# Altium footprint library Capacitor Non-Polar Disc.PcbLib: 220 footprints (part 10 of 14)
Each footprint in its own frame and in the unit in brackets; x right, y up, seen from the top. Pads: shape width x height; smd on the part's side, far side on the other; paste and mask are expansions set on the pad; w line width, h text height; cw(c..) or ccw(c..) is an arc to the next point about the centre after c.
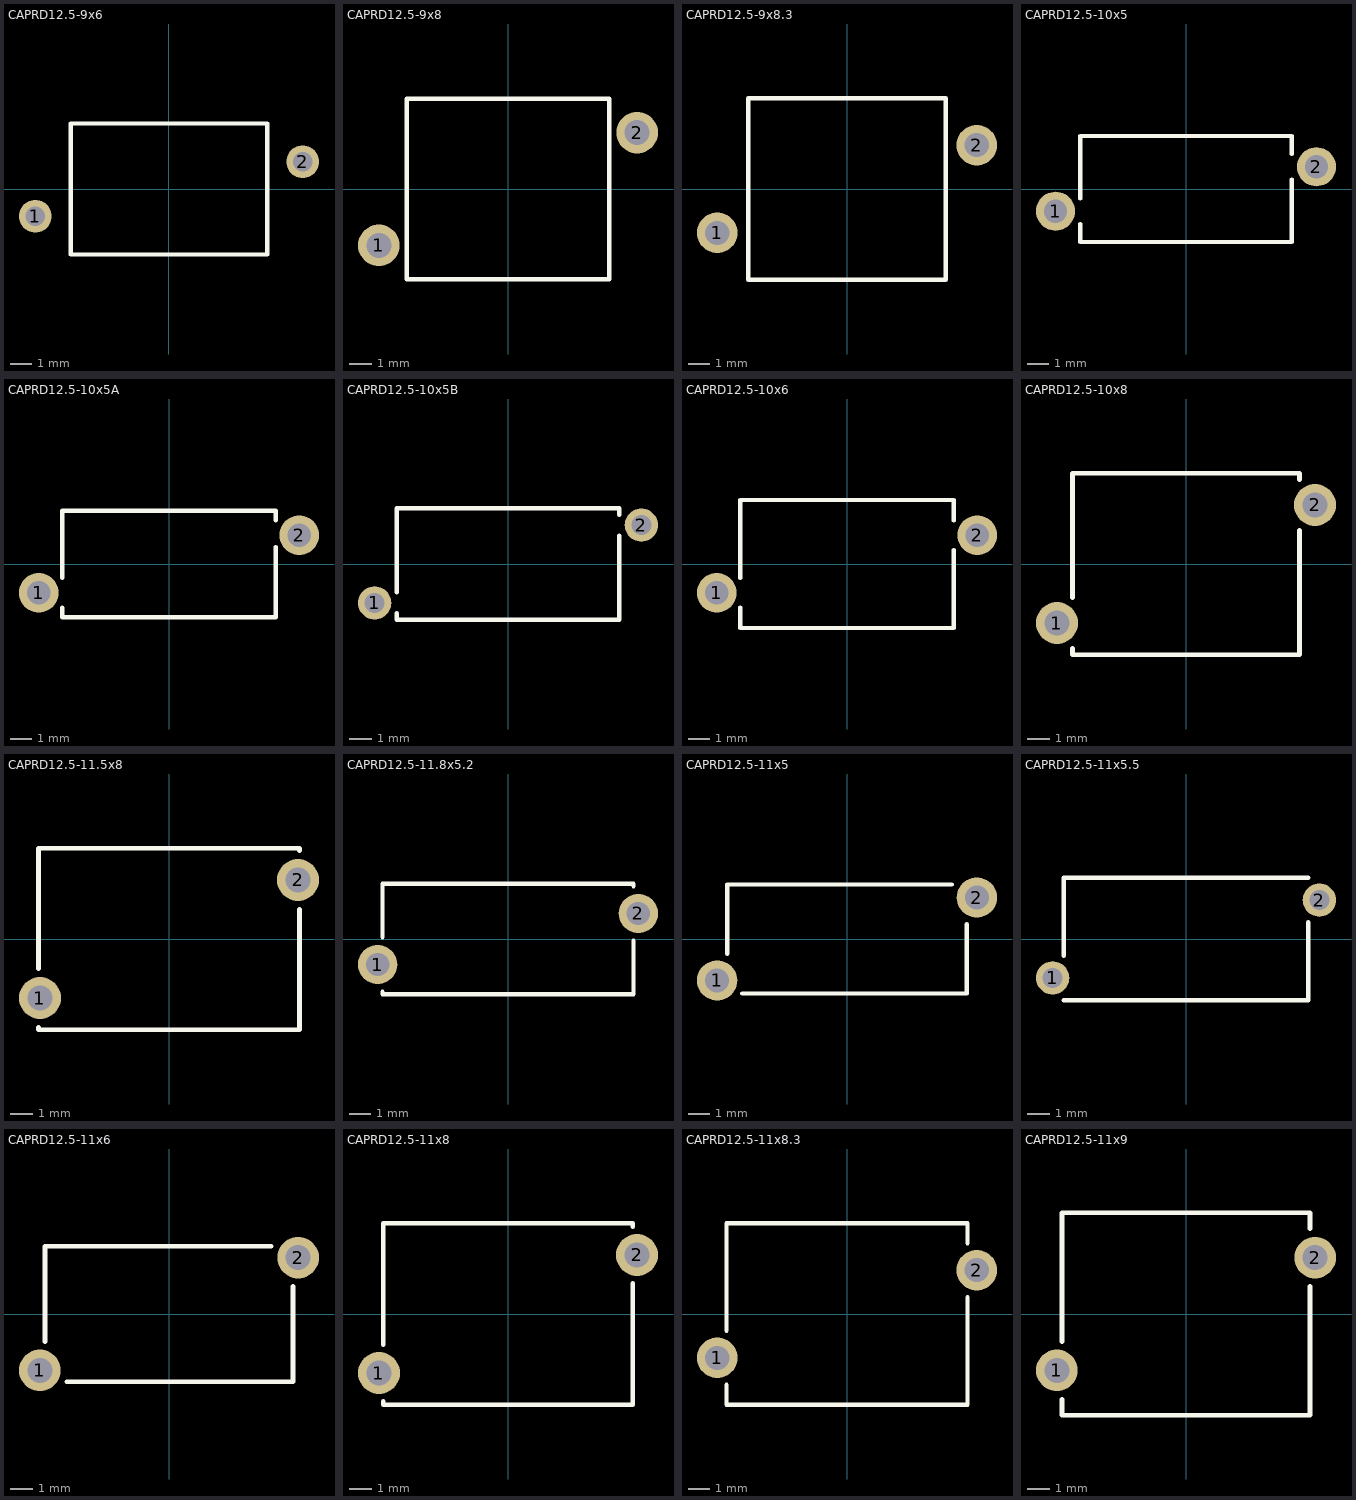
[diagram p9: the footprints below, top view; thin cyan lines are the x and y axes]

## CAPRD12.5-9x6 [mm] "Capacitor, Ceramic, Thru-Hole, Disc; Body 9 x 6 mm (LxW max) Pin Spacing 12.5 mm (typ)"
height 12
pads (2):
  round 1.5 hole 0.9: 1(-6.124,-1.25) 2(6.124,1.25)
Top Overlay:
  lines w0.2: -4.5,-3 -4.5,3 4.5,3 4.5,-3 -4.5,-3

## CAPRD12.5-9x8 [mm] "Capacitor, Ceramic, Thru-Hole, Disc; Body 9 x 8 mm (LxW max) Pin Spacing 12.5 mm (typ)"
height 12
pads (2):
  round 1.85 hole 1.1: 1(-5.728,-2.5) 2(5.728,2.5)
Top Overlay:
  lines w0.2: -4.5,-4 -4.5,4 4.5,4 4.5,-4 -4.5,-4

## CAPRD12.5-9x8.3 [mm] "Capacitor, Ceramic, Thru-Hole, Disc; Body 9 x 8.3 mm (LxW max) Pin Spacing 12.5 mm (typ)"
height 12
pads (2):
  round 1.85 hole 1.1: 1(-5.921,-2) 2(5.921,2)
Top Overlay:
  lines w0.2: -4.5,-4.15 4.5,-4.15 4.5,4.15 -4.5,4.15 -4.5,-4.15

## CAPRD12.5-10x5 [mm] "Capacitor, Ceramic, Thru-Hole, Disc; Body 10 x 5 mm (LxW max) Pin Spacing 12.5 mm (typ)"
height 13
pads (2):
  round 1.85 hole 1.1: 1(-6.161,-1.05) 2(6.161,1.05)
Top Overlay:
  lines w0.2: -5,-1.65 -5,-2.5 5,-2.5 5,0.45 ; -5,-0.45 -5,2.5 5,2.5 5,1.65

## CAPRD12.5-10x5A [mm] "Capacitor, Ceramic, Thru-Hole, Disc; Body 10 x 5 mm (LxW max) Pin Spacing 12.5 mm (typ)"
height 13
pads (2):
  round 1.85 hole 1.1: 1(-6.102,-1.35) 2(6.102,1.35)
Top Overlay:
  lines w0.2: -5,-2.05 -5,-2.5 5,-2.5 5,0.8 ; -5,-0.65 -5,2.5 5,2.5 5,2.05

## CAPRD12.5-10x5B [mm] "Capacitor, Ceramic, Thru-Hole, Disc; Body 10 x 5 mm (LxW max) Pin Spacing 12.5 mm (typ)"
height 13
pads (2):
  round 1.5 hole 0.9: 1(-6,-1.75) 2(6,1.75)
Top Overlay:
  lines w0.2: -5,-2.22 -5,-2.5 5,-2.5 5,1.28 ; -5,-1.28 -5,2.5 5,2.5 5,2.22

## CAPRD12.5-10x6 [mm] "Capacitor, Ceramic, Thru-Hole, Disc; Body 10 x 6 mm (LxW max) Pin Spacing 12.5 mm (typ)"
height 13
pads (2):
  round 1.85 hole 1.1: 1(-6.102,-1.35) 2(6.102,1.35)
Top Overlay:
  lines w0.2: -5,-2.04 -5,-3 5,-3 5,0.66 ; -5,-0.66 -5,3 5,3 5,2.04

## CAPRD12.5-10x8 [mm] "Capacitor, Ceramic, Thru-Hole, Disc; Body 10 x 8 mm (LxW max) Pin Spacing 12.5 mm (typ)"
height 13
pads (2):
  round 1.85 hole 1.1: 1(-5.684,-2.6) 2(5.684,2.6)
Top Overlay:
  lines w0.2: -5,-3.706 -5,-4 5,-4 5,1.494 ; -5,-1.494 -5,4 5,4 5,3.706

## CAPRD12.5-11.5x8 [mm] "Capacitor, Ceramic, Thru-Hole, Disc; Body 11.5 x 8 mm (LxW max) Pin Spacing 12.5 mm (typ)"
height 14.5
pads (2):
  round 1.85 hole 1.1: 1(-5.684,-2.6) 2(5.684,2.6)
Top Overlay:
  lines w0.2: -5.75,-3.899 -5.75,-4 5.75,-4 5.75,1.301 ; -5.75,-1.301 -5.75,4 5.75,4 5.75,3.899

## CAPRD12.5-11.8x5.2 [mm] "Capacitor, Ceramic, Thru-Hole, Disc; Body 11.8 x 5.2 mm (LxW max) Pin Spacing 12.5 mm (typ)"
height 14.8
pads (2):
  round 1.85 hole 1.1: 1(-6.134,-1.2) 2(6.134,1.2)
Top Overlay:
  lines w0.2: -5.9,-2.481 -5.9,-2.6 5.9,-2.6 5.9,-0.081 ; -5.9,0.081 -5.9,2.6 5.9,2.6 5.9,2.481

## CAPRD12.5-11x5 [mm] "Capacitor, Ceramic, Thru-Hole, Disc; Body 11 x 5 mm (LxW max) Pin Spacing 12.5 mm (typ)"
height 14
pads (2):
  round 1.85 hole 1.1: 1(-5.954,-1.9) 2(5.954,1.9)
Top Overlay:
  lines w0.2: -5.5,-0.68 -5.5,2.5 4.799,2.5 ; -4.799,-2.5 5.5,-2.5 5.5,0.68

## CAPRD12.5-11x5.5 [mm] "Capacitor, Ceramic, Thru-Hole, Disc; Body 11 x 5.5 mm (LxW max) Pin Spacing 12.5 mm (typ)"
height 14
pads (2):
  round 1.5 hole 0.9: 1(-6,-1.75) 2(6,1.75)
Top Overlay:
  lines w0.2: -5.5,-2.75 5.5,-2.75 5.5,0.75 ; -5.5,-0.75 -5.5,2.75 5.5,2.75

## CAPRD12.5-11x6 [mm] "Capacitor, Ceramic, Thru-Hole, Disc; Body 11 x 6 mm (LxW max) Pin Spacing 12.5 mm (typ)"
height 16
pads (2):
  round 1.85 hole 1.1: 1(-5.728,-2.5) 2(5.728,2.5)
Top Overlay:
  lines w0.2: -5.5,-1.22 -5.5,3 4.528,3 ; -4.528,-3 5.5,-3 5.5,1.22

## CAPRD12.5-11x8 [mm] "Capacitor, Ceramic, Thru-Hole, Disc; Body 11 x 8 mm (LxW max) Pin Spacing 12.5 mm (typ)"
height 14
pads (2):
  round 1.85 hole 1.1: 1(-5.684,-2.6) 2(5.684,2.6)
Top Overlay:
  lines w0.2: -5.5,-3.85 -5.5,-4 5.5,-4 5.5,1.35 ; -5.5,-1.35 -5.5,4 5.5,4 5.5,3.85

## CAPRD12.5-11x8.3 [mm] "Capacitor, Ceramic, Thru-Hole, Disc; Body 11 x 8.3 mm (LxW max) Pin Spacing 12.5 mm (typ)"
height 14
pads (2):
  round 1.85 hole 1.1: 1(-5.921,-2) 2(5.921,2)
Top Overlay:
  lines w0.2: -5.5,-3.23 -5.5,-4.15 5.5,-4.15 5.5,0.77 ; -5.5,-0.77 -5.5,4.15 5.5,4.15 5.5,3.23

## CAPRD12.5-11x9 [mm] "Capacitor, Ceramic, Thru-Hole, Disc; Body 11 x 9 mm (LxW max) Pin Spacing 12.5 mm (typ)"
height 16
pads (2):
  round 1.85 hole 1.1: 1(-5.728,-2.5) 2(5.728,2.5)
Top Overlay:
  lines w0.2: -5.5,-3.78 -5.5,-4.5 5.5,-4.5 5.5,1.22 ; -5.5,-1.22 -5.5,4.5 5.5,4.5 5.5,3.78